# Altium schematic symbol library conn_jackAV.SchLib: 27 symbols
Pins are listed as number, name and electrical type; pins without a type are passive.

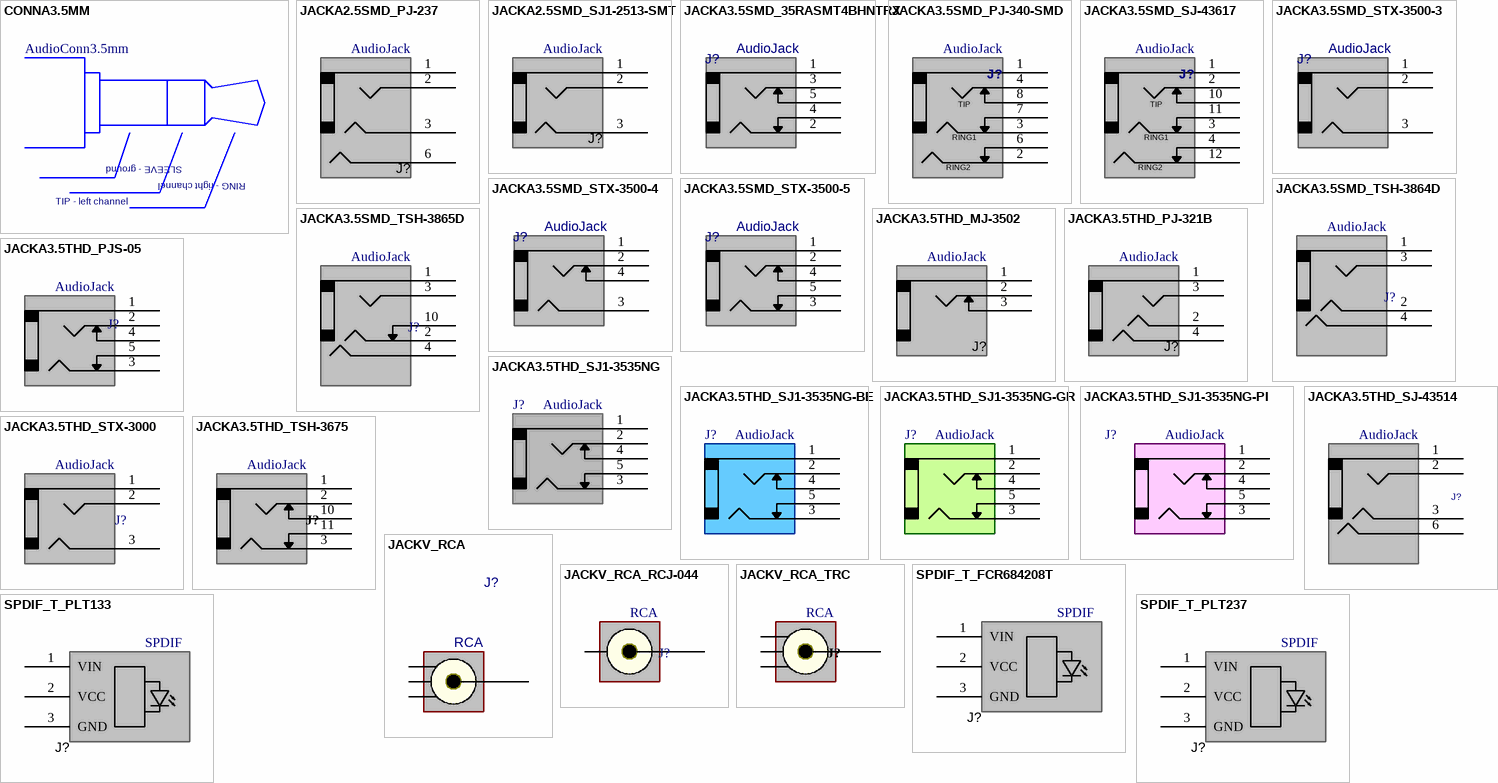
[diagram p0: symbols CONNA3.5MM to SPDIF_T_PLT237]

## CONNA3.5MM
designator J?, comment AudioConn3.5mm  (graphical)
Conn, Audio, 3.5mm; VALUE: AudioConn3.5mm
footprint CONNA (Conn, Audio, Stereo, 3.5mm)
text: SLEEVE - ground; RING - right channel; TIP - left channel

## JACKA2.5SMD_PJ-237
designator J?, comment AudioJack
Jack, Audio, Stereo, 2.5mm, RA, SMD; MANF_P#: PJ-237; MANF: -; VALUE: AudioJack
footprint JCKAS_PJ237 (Jack, Audio, Stereo, 3.5mm, RA, SMD, PJ-237)
pins: 1 SLEEVE, 2 TIP, 3 RING, 6 RING2

## JACKA2.5SMD_SJ1-2513-SMT
designator J?, comment AudioJack
Jack, Audio, Stereo, 2.5mm, RA, SMD; MANF: CUI Inc; MANF_P#: SJ1-2513-SMT; VALUE: AudioJack
footprint JCKAS_SJ2513 (CUI SJ1-2513-SMT 2.5mm stereo jack)
pins: 1 SLEEVE, 2 TIP, 3 RING

## JACKA3.5SMD_35RASMT4BHNTRX
designator J?, comment AudioJack
Jack, Audio, Stereo, 3.5mm, RA, SMD; MANF: Switchcraft; DESC: DESCRIPTION; DIST#: MOUSER; MANF_P#: 35RASMT4BHNTRX; ASSEMBLY: ASSEMBLY; PARAM: PARAM; PRICE: 1.6$; VALUE: AudioJack
footprint JCKAS_35RASMT4 (Audio Jack, 35RASMT4BHNTRX)
pins: 1 SHIELD, 2 RING, 3 TIP, 4 RINGSW, 5 TIPB

## JACKA3.5SMD_PJ-340-SMD
designator J?, comment AudioJack
Jack, Audio, Stereo, 3.5mm, RA, THD; MANF: xyfwcn; MANF_P#: PJ-340-SMD; PRICE: 0.5$; VALUE: AudioJack
footprint JCKAS_PJ340 (Jack, Audio, Stereo, 3.5mm, PJ-340-SMD)
pins: 1 SLEEVE, 2 RING2, 3 RING1, 4 TIP, 6 RING2SW, 7 RING1SW, 8 TIPSW

## JACKA3.5SMD_SJ-43617
designator J?, comment AudioJack
Jack, Audio, Stereo, 3.5mm, RA, THD; MANF: CUI; MANF_P#: SJ-43617-SMT; PRICE: 1.4$; VALUE: AudioJack
footprint JCKAS_SJ43617 (Jack, Audio, Stereo, 3.5mm, SJ-43617-SMT)
pins: 1 SLEEVE, 2 TIP, 3 RING1, 4 RING2SW, 10 TIPSW, 11 RING1SW, 12 RING2

## JACKA3.5SMD_STX-3500-3
designator J?, comment AudioJack
Jack, Audio, Stereo, 3.5mm, RA, SMD; MANF: Kycon; DESC: DESCRIPTION; DIST#: MOUSER; MANF_P#: STX-3500-3NTR; ASSEMBLY: ASSEMBLY; PARAM: PARAM; PRICE: 1.6$; VALUE: AudioJack
footprint JCKAS_STX3500 (Jack, Audio, Stereo, 3.5mm, RA, SMD)
pins: 1 SHIELD, 2 TIP, 3 RING

## JACKA3.5SMD_STX-3500-4
designator J?, comment AudioJack
Jack, Audio, Stereo, 3.5mm, RA, SMD; MANF: Kycon; DESC: DESCRIPTION; DIST#: MOUSER; MANF_P#: STX-3500-4NTR; ASSEMBLY: ASSEMBLY; PARAM: PARAM; PRICE: 1.6$; VALUE: AudioJack
footprint JCKAS_STX3500 (Jack, Audio, Stereo, 3.5mm, RA, SMD)
pins: 1 SHIELD, 2 TIP, 3 RING, 4 TIPSW

## JACKA3.5SMD_STX-3500-5
designator J?, comment AudioJack
Jack, Audio, Stereo, 3.5mm, RA, SMD; MANF: Kycon; DESC: DESCRIPTION; DIST#: MOUSER; MANF_P#: STX-3500-5NTR; ASSEMBLY: ASSEMBLY; PARAM: PARAM; PRICE: 1.6$; VALUE: AudioJack
footprint JCKAS_STX3500 (Jack, Audio, Stereo, 3.5mm, RA, SMD)
pins: 1 SLEEVE, 2 TIP, 3 RING, 4 TIPSW, 5 RINGSW

## JACKA3.5SMD_TSH-3864D
designator J?, comment AudioJack
Jack, Audio, Stereo, 3.5mm, RA, SMD; MANF: Champway; MANF_P#: TSH-3864D; VALUE: AudioJack
footprint JCKAS_PJ386 (Jack, Audio, Stereo, 3.5mm, RA, SMD)
pins: 1 SLEEVE (power) "Sleeve (Ground)", 2 RING_L "Tip/Left Channel/(+)", 3 TIP_R "Ring/Right Channel/(-)", 4 SN-NO "Sleeve Normal (Break Contact)"

## JACKA3.5SMD_TSH-3865D
designator J?, comment AudioJack
Jack, Audio, Stereo, 3.5mm, RA, SMD; MANF: Champway; MANF_P#: TSH-3865D; VALUE: AudioJack
footprint JCKAS_PJ386 (Jack, Audio, Stereo, 3.5mm, RA, SMD)
pins: 1 S (power) "Sleeve (Ground)", 2 RING_L "Tip/Left Channel/(+)", 3 TIP_R "Ring/Right Channel/(-)", 4 SN-NO "Sleeve Normal (Break Contact)", 10 SL-NC

## JACKA3.5THD_MJ-3502
designator J?, comment AudioJack
Jack, Audio, Mono, 3.5mm, RA, THD; MANF: CUI Inc; MANF_P#: MJ-3502; VALUE: AudioJack
footprint JCKAT_MJ3502 (CUI MJ-3502 3.5mm audio jack - mono)
pins: 1 SLEEVE, 2 TIP, 3 TIPSW

## JACKA3.5THD_PJ-321B
designator J?, comment AudioJack
Jack, Audio, Stereo, 2.5mm, RA, SMD; MANF_P#: PJ-321B; MANF: -; VALUE: AudioJack
footprint JCKAT_PJ321 (Jack, Audio, Stereo, 3.5mm, RA, THD, PJ-321B)
pins: 1 SLEEVE, 2 RING, 3 TIP, 4 RING2

## JACKA3.5THD_PJS-05
designator J?, comment AudioJack
Jack, Audio, Stereo, 3.5mm, RA, THD; MANF: AUK; MANF_P#: PJS-05-LB-H; VALUE: AudioJack
footprint JCKAT_PJS05LBH (Jack, Audio, Stereo, 3.5mm, RA, THD, PJS-05-LB-H)
pins: 1 COM, 2 TIP_L, 3 RING_R, 4 TIPSW, 5 RINGSW

## JACKA3.5THD_SJ1-3535NG
designator J?, comment AudioJack
Jack, Audio, Stereo, 3.5mm, RA, THD, Black; MANF: CUI Inc; MANF_P#: SJ1-3535NG; PARAM2: 16VDC, 300mA; PARAM: Black Color, Brass Contact, tin plating; PRICE: 1=0.89, 10=0.686, 100=0.5235, 500=0.41878, 1000=0.37226, 2500=0.30944 (GBP); VALUE: AudioJack
footprint JCKAT_SJ3535 (Jack, Audio, Stereo, 3.5mm, RA, THD, SJ1-3535NG BLACK)
pins: 1 sleeve, 2 TIP, 3 RING, 4 TIPSW, 5 RINGSW

## JACKA3.5THD_SJ1-3535NG-BE
designator J?, comment AudioJack
Jack, Audio, Stereo, 3.5mm, RA, THD, Blue; MANF: CUI Inc; MANF_P#: SJ1-3535NG-BE; PARAM2: 16VDC, 300mA; PARAM: Blue Color, Brass Contact, tin plating; PRICE: 1=0.97, 10=0.755, 100=0.5757, 500=0.46054, 1000=0.40937, 2500=0.34029 (GBP); VALUE: AudioJack
footprint JCKAT_SJ3535BLU (Jack, Audio, Stereo, 3.5mm, RA, THD, SJ1-3535NG-BE)
pins: 1 sleeve, 2 TIP, 3 RING, 4 TIPSW, 5 RINGSW

## JACKA3.5THD_SJ1-3535NG-GR
designator J?, comment AudioJack
Jack, Audio, Stereo, 3.5mm, RA, THD, Green; MANF: CUI Inc; MANF_P#: SJ1-3535NG-GR; PARAM2: 16VDC, 300mA; PARAM: Green Color, Brass Contact, tin plating; PRICE: 1=0.97, 10=0.755, 100=0.5757, 500=0.46054, 1000=0.40937, 2500=0.34029 (GBP); VALUE: AudioJack
footprint JCKAT_SJ3535GRN (Jack, Audio, Stereo, 3.5mm, RA, THD, SJ1-3535NG-GR)
pins: 1 sleeve, 2 TIP, 3 RING, 4 TIPSW, 5 RINGSW

## JACKA3.5THD_SJ1-3535NG-PI
designator J?, comment AudioJack
Jack, Audio, Stereo, 3.5mm, RA, THD, Pink; MANF: CUI Inc; MANF_P#: SJ1-3535NG-PI; PARAM2: 16VDC, 300mA; PARAM: Pink Color, Brass Contact, tin plating; PRICE: 1=1.38, 10=1.074, 100=0.819, 500=0.6552, 1000=0.5824, 2500=0.48412 (USD); VALUE: AudioJack
footprint JCKAT_SJ3535PNK (Jack, Audio, Stereo, 3.5mm, RA, THD, SJ1-3535NG-PI)
pins: 1 sleeve, 2 TIP, 3 RING, 4 TIPSW, 5 RINGSW

## JACKA3.5THD_SJ-43514
designator J?, comment AudioJack
Jack, Audio, Stereo, 3.5mm, RA, THD; MANF: CUI INC; MANF_P#: SJ-43514; VALUE: AudioJack
footprint JCKAT_SJ43514 (Audio_JACK_RA_TH_SJ-43514)
pins: 1 SLEEVE, 2 TIP, 3 RING, 6 RING2

## JACKA3.5THD_STX-3000
designator J?, comment AudioJack
Jack, Audio, Stereo, 3.5mm, RA, THD; MANF: Kycon; MANF_P#: STX-3000; PRICE: 1.6$; VALUE: AudioJack
footprint JCKAT_STX3000 (STX-3000 Audio Jack)
pins: 1 SLEEVE, 2 TIP, 3 RING

## JACKA3.5THD_TSH-3675
designator J?, comment AudioJack
Jack, Audio Phone, Stereo, 3.5mm, RA, THD; MANF: Champway; MANF_P#: TSH-3675; VALUE: AudioJack
footprint JCKAT_TSH3675 (Jack, Audio, Stereo, 3.5mm, RA, THD, TSH3675)
pins: 1 SLEEVE, 2 TIP, 3 RING, 10 TIPSW, 11 RINGSW
3 alternate drawings of the same symbol

## JACKV_RCA
designator J?, comment RCA
Jack, RCA, VIDEO FEMALE, RA, THD; MANF: Keystone; DESC: DESCRIPTION; DIST#: MOUSER; MANF_P#: 901; ASSEMBLY: ASSEMBLY; PARAM: PARAM; PRICE: 1.4$; VALUE: RCA
footprint JCKV_RCA (RCA PHONO JACK VIDEO KEYSTONE 901)
pins: 1 SIG, 2 G1, 3 G2, 4 G3

## JACKV_RCA_RCJ-044
designator J?, comment RCA
Jack, RCA, VIDEO FEMALE, RA, THD, MONO, YELLOW; MANF: CUI; MANF_P#: RCJ-044; PRICE: 1.3$; VALUE: RCA
footprint JCKV_RCA_RCJ044 (RCA PHONO JACK VIDEO CUI, RCJ-044)
pins: 1 SIG, 2 G1

## JACKV_RCA_TRC
designator J?, comment RCA
Jack, RCA, VIDEO FEMALE, RA, THD; MANF_P#: TRC-005-4; VALUE: RCA
footprint JCKV_RCA_TRC (TRC Video Connector)
pins: 1 SIG, 2 G1, 3 G2, 4 G3

## SPDIF_T_FCR684208T
designator J?, comment SPDIF
FIBER OPTIC TRANSMITTER IR, 16Mbps; MANF: CLIFF; MANF_P#: FCR684208T; PARAM2: 2.7~5.5Vcc; PARAM: 16Mbps, -40~85ºC; PRICE: 0.6$; VALUE: SPDIF
footprint SPDIF_T (PLT133/T10W, PLT237-T10WH, FCR684208T)
pins: 1 VIN, 2 VCC, 3 GND

## SPDIF_T_PLT133
designator J?, comment SPDIF
FIBER OPTIC TRANSMITTER IR, 16Mbps; MANF: Everlight; MANF_P#: PLT133/T10W; PARAM2: 2.7~5Vcc; PARAM: 16Mbps, -40~85ºC; PRICE: 0.6$; VALUE: SPDIF
footprint SPDIF_T (PLT133/T10W, PLT237-T10WH, FCR684208T)
pins: 1 VIN, 2 VCC, 3 GND

## SPDIF_T_PLT237
designator J?, comment SPDIF
FIBER OPTIC TRANSMITTER IR, 25Mbps; MANF: Everlight; MANF_P#: PLT237/T10WH; PARAM2: 2.7~5Vcc; PARAM: 25Mbps, -40~85ºC; PRICE: 0.8$; VALUE: SPDIF
footprint SPDIF_T (PLT133/T10W, PLT237-T10WH, FCR684208T)
pins: 1 VIN, 2 VCC, 3 GND